# EAGLE library part SL08 (library MRDT-Connectors)
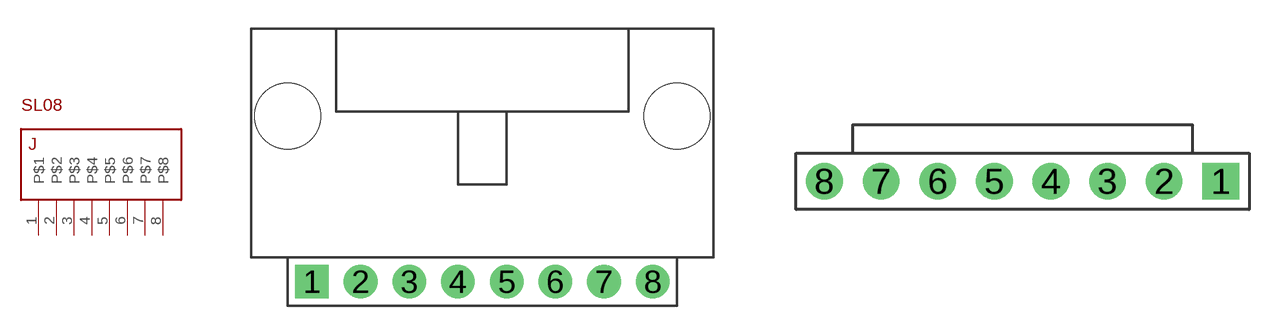
[diagram p7: symbol with the pads of MOLEX-70551-0007; footprints MOLEX-70551-0007, MOLEX-70543-0007]

Designator prefix J

## SL08_HORIZ  [MOLEX-70551-0007]
1  P$1
2  P$2
3  P$3
4  P$4
5  P$5
6  P$6
7  P$7
8  P$8

## SL08  [MOLEX-70543-0007]
Pads as for MOLEX-70551-0007

## Footprint MOLEX-70551-0007 (pad centres in mm)
drill 1.168 square: 1 -8.89,0
drill 1.168: 2 -6.35,0; 3 -3.81,0; 4 -1.27,0; 5 1.27,0; 6 3.81,0; 7 6.35,0; 8 8.89,0
hole 3.454 at -10.16,8.636
hole 3.454 at 10.16,8.636

## Footprint MOLEX-70543-0007 (pad centres in mm)
drill 1.1 square: 1 11.43,0
drill 1.1: 2 8.89,0; 3 6.35,0; 4 3.81,0; 5 1.27,0; 6 -1.27,0; 7 -3.81,0; 8 -6.35,0